# EAGLE library part LT3514 (library ic-LT)
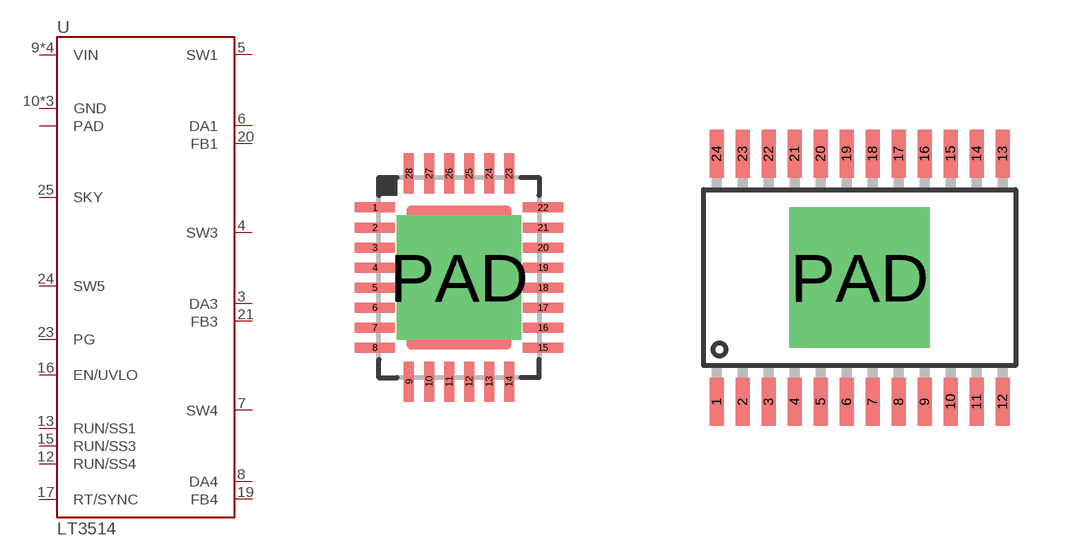
[diagram p11: symbol with the pads of QFN28-0.5; footprints QFN28-0.5, TSSOP24-PAD]

Designator prefix U

## LT3514-UFD  [QFN28-0.5]
3  DA3
4  SW3
5  SW1
6  DA1
7  SW4
8  DA4
9  VIN
10  GND
11  VIN
12  RUN/SS4
13  RUN/SS1
15  RUN/SS3
16  EN/UVLO
17  RT/SYNC
18  GND
19  FB4
20  FB1
21  FB3
23  PG
24  SW5
25  SKY
26  VIN
27  GND
28  VIN
PAD  PAD

## LT3514-FE  [TSSOP24-PAD]
1  VIN
3  DA3
4  SW3
5  SW3
6  SW1
7  DA1
8  SW4
9  DA4
11  VIN
12  VIN
13  RUN/SS4
14  RUN/SS1
15  RUN/SS3
16  EN/UVLO
17  RT/SYNC
18  FB4
19  FB1
20  FB3
21  PG
22  GND
23  SW5
24  SKY
PAD  PAD

## Footprint QFN28-0.5 (pad centres in mm)
smd 1 x 0.25: 1 -2.1,1.75; 2 -2.1,1.25; 3 -2.1,0.75; 4 -2.1,0.25; 5 -2.1,-0.25; 6 -2.1,-0.75; 7 -2.1,-1.25; 8 -2.1,-1.75; 15 2.1,-1.75; 16 2.1,-1.25; 17 2.1,-0.75; 18 2.1,-0.25; 19 2.1,0.25; 20 2.1,0.75; 21 2.1,1.25; 22 2.1,1.75
smd 0.25 x 1: 9 -1.25,-2.6; 10 -0.75,-2.6; 11 -0.25,-2.6; 12 0.25,-2.6; 13 0.75,-2.6; 14 1.25,-2.6; 23 1.25,2.6; 24 0.75,2.6; 25 0.25,2.6; 26 -0.25,2.6; 27 -0.75,2.6; 28 -1.25,2.6
drill 2.1 pad 2.6 square: PAD 0,0

## Footprint TSSOP24-PAD (pad centres in mm)
smd 0.35 x 1.2: 1 -3.575,-3.1; 2 -2.925,-3.1; 3 -2.275,-3.1; 4 -1.625,-3.1; 5 -0.975,-3.1; 6 -0.325,-3.1; 7 0.325,-3.1; 8 0.975,-3.1; 9 1.625,-3.1; 10 2.275,-3.1; 11 2.925,-3.1; 12 3.575,-3.1; 13 3.575,3.1; 14 2.925,3.1; 15 2.275,3.1; 16 1.625,3.1; 17 0.975,3.1; 18 0.325,3.1; 19 -0.325,3.1; 20 -0.975,3.1; 21 -1.625,3.1; 22 -2.275,3.1; 23 -2.925,3.1; 24 -3.575,3.1
drill 2.5 pad 3 square: PAD 0,0